# Altium schematic symbol library USB-B.SchLib: 1 symbol
Pins are listed as number, name and electrical type; pins without a type are passive.

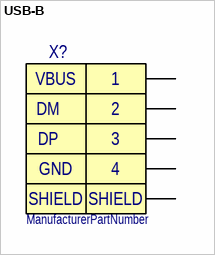
[diagram p0: symbol USB-B]

## USB-B
designator X?
ManufacturerPartNumber: ManufacturerPartNumber
footprint USB-B
pins: DM, DP, GND, SHIELD GND, VBUS
text: 1; 2; 3; 4